# Altium footprint library ESP32.PcbLib: 6 footprints
Each footprint in its own frame and in the unit in brackets; x right, y up, seen from the top. Pads: shape width x height; smd on the part's side, far side on the other; paste and mask are expansions set on the pad; w line width, h text height; cw(c..) or ccw(c..) is an arc to the next point about the centre after c.
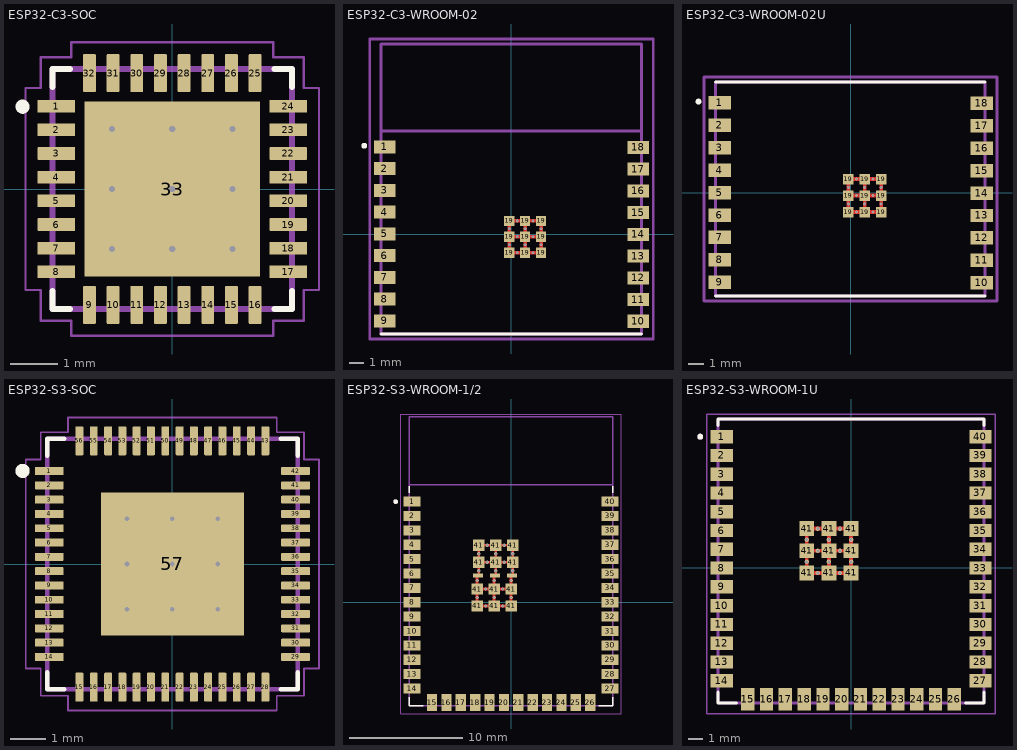
[diagram p0: the footprints below, top view; thin cyan lines are the x and y axes]

## ESP32-C3-SOC [mm]
pads (33):
  rrect15% 0.8x0.27 smd: 1(-2.45,1.75) 2(-2.45,1.25) 3(-2.45,0.75) 4(-2.45,0.25) 5(-2.45,-0.25) 6(-2.45,-0.75) 7(-2.45,-1.25) 8(-2.45,-1.75) 17(2.45,-1.75) 18(2.45,-1.25) 19(2.45,-0.75) 20(2.45,-0.25) 21(2.45,0.25) 22(2.45,0.75) 23(2.45,1.25) 24(2.45,1.75)
  rrect15% 0.27x0.8 smd: 9(-1.75,-2.45) 10(-1.25,-2.45) 11(-0.75,-2.45) 12(-0.25,-2.45) 13(0.25,-2.45) 14(0.75,-2.45) 15(1.25,-2.45) 16(1.75,-2.45) 25(1.75,2.45) 26(1.25,2.45) 27(0.75,2.45) 28(0.25,2.45) 29(-0.25,2.45) 30(-0.75,2.45) 31(-1.25,2.45) 32(-1.75,2.45)
  rect 3.7x3.7 smd paste-0.679: 33(0,0)
via 0,-1.27 diameter 0.254 hole 0.127
via 1.27,-1.27 diameter 0.254 hole 0.127
via 1.27,0 diameter 0.254 hole 0.127
via 0,0 diameter 0.254 hole 0.127
via -1.27,1.27 diameter 0.254 hole 0.127
via 1.27,1.27 diameter 0.254 hole 0.127
via 0,1.27 diameter 0.254 hole 0.127
via -1.27,-1.27 diameter 0.254 hole 0.127
via -1.27,0 diameter 0.254 hole 0.127
Top Overlay:
  circle w0.15: c-3.163,1.739 r0.075
  lines w0.127: -2.53,-2.156 -2.53,-2.53 -2.156,-2.53 ; -2.53,2.156 -2.53,2.53 -2.156,2.53 ; 2.156,-2.53 2.53,-2.53 2.53,-2.156 ; 2.156,2.53 2.53,2.53 2.53,2.156
Top 3D Body:
  lines w0.127: -2.53,-2.53 2.53,-2.53 2.53,2.53 -2.53,2.53 -2.53,-2.53
Top Courtyard:
  lines w0.05: -3.1,-2.135 -3.1,2.135 -2.78,2.135 -2.78,2.78 -2.135,2.78 -2.135,3.1 2.135,3.1 2.135,2.78 2.78,2.78 2.78,2.135 3.1,2.135 3.1,-2.135 2.78,-2.135 2.78,-2.78 2.135,-2.78 2.135,-3.1 -2.135,-3.1 -2.135,-2.78 -2.78,-2.78 -2.78,-2.135 -3.1,-2.135
3D body "ESP32-C3-SOC.STEP": height 0.87, standoff 0, extent -2.501,-2.501 2.501,2.501

## ESP32-C3-WROOM-02 [mm]
pads (27):
  rect 1.5x0.9 smd: 1(-8.75,6.016) 2(-8.75,4.516) 3(-8.75,3.016) 4(-8.75,1.516) 5(-8.75,0.016) 6(-8.75,-1.484) 7(-8.75,-2.984) 8(-8.75,-4.484) 9(-8.75,-5.984) 10(8.75,-6.015) 11(8.75,-4.516) 12(8.75,-3.016) 13(8.75,-1.515) 14(8.75,-0.015) 15(8.75,1.485) 16(8.75,2.984) 17(8.75,4.484) 18(8.75,5.985)
  rect 0.7x0.7 smd: 19(-0.155,-1.285) 19(-0.155,-0.185) 19(-0.155,0.915) 19(0.945,-1.285) 19(0.945,-0.185) 19(0.945,0.915) 19(2.045,-1.285) 19(2.045,-0.185) 19(2.045,0.915)
via -0.155,0.365 diameter 0.2 hole 0.15
via 0.945,0.365 diameter 0.2 hole 0.15
via 2.045,0.365 diameter 0.2 hole 0.15
via -0.155,-0.734 diameter 0.2 hole 0.15
via 0.945,-0.734 diameter 0.2 hole 0.15
via 2.045,-0.734 diameter 0.2 hole 0.15
via 0.395,-1.285 diameter 0.2 hole 0.15
via 0.395,-0.185 diameter 0.2 hole 0.15
via 0.395,0.915 diameter 0.2 hole 0.15
via 1.495,0.915 diameter 0.2 hole 0.15
via 1.495,-0.185 diameter 0.2 hole 0.15
via 1.495,-1.285 diameter 0.2 hole 0.15
Top Layer:
  lines w0.254: -0.155,-0.185 2.045,-0.185 ; 0.945,-1.285 0.945,0.915 ; -0.155,-1.285 2.045,-1.285 2.045,0.915 -0.155,0.915 -0.155,-1.285
Top Overlay:
  circle w0.2: c-10.16,6.096 r0.1
  lines w0.2: -9.015,-6.884 8.985,-6.884
Top 3D Body:
  lines w0.2: -9.015,7.116 8.985,7.116 ; -9.015,-6.884 -9.015,13.116 8.985,13.116 8.985,-6.884 -9.015,-6.884
Top Courtyard:
  lines w0.2: -9.779,-7.239 9.779,-7.239 9.779,13.462 -9.779,13.462 -9.779,-7.239
3D body "ESP32-C3-WROOM-02.STEP": height 3.2, standoff 0, extent -9.015,-6.884 8.985,13.116

## ESP32-C3-WROOM-02U [mm]
pads (27):
  rect 1.5x0.9 smd: 1(-8.75,6.016) 2(-8.75,4.516) 3(-8.75,3.016) 4(-8.75,1.516) 5(-8.75,0.016) 6(-8.75,-1.484) 7(-8.75,-2.984) 8(-8.75,-4.484) 9(-8.75,-5.984) 10(8.75,-6.015) 11(8.75,-4.516) 12(8.75,-3.016) 13(8.75,-1.515) 14(8.75,-0.015) 15(8.75,1.485) 16(8.75,2.984) 17(8.75,4.484) 18(8.75,5.985)
  rect 0.7x0.7 smd: 19(-0.155,-1.285) 19(-0.155,-0.185) 19(-0.155,0.915) 19(0.945,-1.285) 19(0.945,-0.185) 19(0.945,0.915) 19(2.045,-1.285) 19(2.045,-0.185) 19(2.045,0.915)
via 1.495,-1.285 diameter 0.2 hole 0.15
via 1.495,-0.185 diameter 0.2 hole 0.15
via 1.495,0.915 diameter 0.2 hole 0.15
via 0.395,0.915 diameter 0.2 hole 0.15
via 0.395,-0.185 diameter 0.2 hole 0.15
via 0.395,-1.285 diameter 0.2 hole 0.15
via 2.045,-0.734 diameter 0.2 hole 0.15
via 0.945,-0.734 diameter 0.2 hole 0.15
via -0.155,-0.734 diameter 0.2 hole 0.15
via 2.045,0.365 diameter 0.2 hole 0.15
via 0.945,0.365 diameter 0.2 hole 0.15
via -0.155,0.365 diameter 0.2 hole 0.15
Top Layer:
  lines w0.254: -0.155,-0.185 2.045,-0.185 ; 0.945,-1.285 0.945,0.915 ; -0.155,-1.285 -0.155,0.915 2.045,0.915 2.045,-1.285 -0.155,-1.285
Top Overlay:
  circle w0.2: c-10.16,6.096 r0.1
  lines w0.2: -9.015,-6.884 8.985,-6.884 ; -9.015,7.415 8.985,7.415
Top 3D Body:
  lines w0.2: -9.015,-6.884 8.985,-6.884 8.985,7.415 -9.015,7.415 -9.015,-6.884
Top Courtyard:
  lines w0.2: -9.779,-7.239 -9.779,7.747 9.779,7.747 9.779,-7.239 -9.779,-7.239
3D body "ESP32-C3-WROOM-02U.STEP": height 3.2, standoff 0, extent -9.015,-6.884 8.985,7.415

## ESP32-S3-SOC [mm]
pads (57):
  rrect25% 0.81x0.22 smd: 1(-3.445,2.6) 2(-3.445,2.2) 3(-3.445,1.8) 4(-3.445,1.4) 5(-3.445,1) 6(-3.445,0.6) 7(-3.445,0.2) 8(-3.445,-0.2) 9(-3.445,-0.6) 10(-3.445,-1) 11(-3.445,-1.4) 12(-3.445,-1.8) 13(-3.445,-2.2) 14(-3.445,-2.6) 29(3.445,-2.6) 30(3.445,-2.2) 31(3.445,-1.8) 32(3.445,-1.4) 33(3.445,-1) 34(3.445,-0.6) 35(3.445,-0.2) 36(3.445,0.2) 37(3.445,0.6) 38(3.445,1) 39(3.445,1.4) 40(3.445,1.8) 41(3.445,2.2) 42(3.445,2.6)
  rrect25% 0.22x0.81 smd: 15(-2.6,-3.445) 16(-2.2,-3.445) 17(-1.8,-3.445) 18(-1.4,-3.445) 19(-1,-3.445) 20(-0.6,-3.445) 21(-0.2,-3.445) 22(0.2,-3.445) 23(0.6,-3.445) 24(1,-3.445) 25(1.4,-3.445) 26(1.8,-3.445) 27(2.2,-3.445) 28(2.6,-3.445) 43(2.6,3.445) 44(2.2,3.445) 45(1.8,3.445) 46(1.4,3.445) 47(1,3.445) 48(0.6,3.445) 49(0.2,3.445) 50(-0.2,3.445) 51(-0.6,3.445) 52(-1,3.445) 53(-1.4,3.445) 54(-1.8,3.445) 55(-2.2,3.445) 56(-2.6,3.445)
  rect 4x4 smd paste-3: 57(0,0)
via 0,-1.27 diameter 0.254 hole 0.127
via 1.27,-1.27 diameter 0.254 hole 0.127
via 1.27,0 diameter 0.254 hole 0.127
via 0,0 diameter 0.254 hole 0.127
via -1.27,1.27 diameter 0.254 hole 0.127
via 1.27,1.27 diameter 0.254 hole 0.127
via 0,1.27 diameter 0.254 hole 0.127
via -1.27,-1.27 diameter 0.254 hole 0.127
via -1.27,0 diameter 0.254 hole 0.127
Top Overlay:
  circle w0.2: c-4.191,2.603 r0.1
  lines w0.127: -3.5,-3.03 -3.5,-3.5 -3.03,-3.5 ; -3.5,3.03 -3.5,3.5 -3.03,3.5 ; 3.03,-3.5 3.5,-3.5 3.5,-3.03 ; 3.03,3.5 3.5,3.5 3.5,3.03
Top 3D Body:
  lines w0.127: -3.5,-3.5 -3.5,3.5 3.5,3.5 3.5,-3.5 -3.5,-3.5
Top Courtyard:
  lines w0.05: -4.1,-2.921 -4.1,2.921 -3.683,2.921 -3.683,3.683 -2.921,3.683 -2.921,4.1 2.921,4.1 2.921,3.683 3.683,3.683 3.683,2.921 4.1,2.921 4.1,-2.921 3.683,-2.921 3.683,-3.683 2.921,-3.683 2.921,-4.1 -2.921,-4.1 -2.921,-3.683 -3.683,-3.683 -3.683,-2.921 -4.1,-2.921
3D body "ESP32-S3-SOC.STEP": height 0.87, standoff 0, extent -3.501,-3.501 3.501,3.501

## ESP32-S3-WROOM-1/2 [mm]
pads (55):
  rect 1.5x0.9 smd: 1(-8.75,8.88) 2(-8.75,7.61) 3(-8.75,6.34) 4(-8.75,5.07) 5(-8.75,3.8) 6(-8.75,2.53) 7(-8.75,1.26) 8(-8.75,-0.01) 9(-8.75,-1.28) 10(-8.75,-2.55) 11(-8.75,-3.82) 12(-8.75,-5.09) 13(-8.75,-6.36) 14(-8.75,-7.63) 27(8.75,-7.63) 28(8.75,-6.36) 29(8.75,-5.09) 30(8.75,-3.82) 31(8.75,-2.55) 32(8.75,-1.28) 33(8.75,-0.01) 34(8.75,1.26) 35(8.75,2.53) 36(8.75,3.8) 37(8.75,5.07) 38(8.75,6.34) 39(8.75,7.61) 40(8.75,8.88)
  rect 0.9x1.5 smd: 15(-6.985,-8.88) 16(-5.715,-8.88) 17(-4.445,-8.88) 18(-3.175,-8.88) 19(-1.905,-8.88) 20(-0.635,-8.88) 21(0.635,-8.88) 22(1.905,-8.88) 23(3.175,-8.88) 24(4.445,-8.88) 25(5.715,-8.88) 26(6.985,-8.88)
  rect 1x1 smd: 41(-3,-0.34) 41(-3,1.16) 41(-2.86,3.53) 41(-2.86,5.03) 41(-1.5,-0.34) 41(-1.5,1.16) 41(-1.36,3.53) 41(-1.36,5.03) 41(0,-0.34) 41(0,1.16) 41(0.14,3.53) 41(0.14,5.03)
  rect 0.86x0.37 smd: 41(-2.93,2.345) 41(-1.43,2.345) 41(0.07,2.345)
via -2.86,2.78 diameter 0.3 hole 0.2
via -3,1.91 diameter 0.3 hole 0.2
via -0.61,3.53 diameter 0.3 hole 0.2
via -2.11,3.53 diameter 0.3 hole 0.2
via -1.36,2.78 diameter 0.3 hole 0.2
via 0.14,2.78 diameter 0.3 hole 0.2
via -2.86,4.28 diameter 0.3 hole 0.2
via -1.36,4.28 diameter 0.3 hole 0.2
via 0.14,4.28 diameter 0.3 hole 0.2
via -0.61,5.03 diameter 0.3 hole 0.2
via -2.11,5.03 diameter 0.3 hole 0.2
via -0.75,1.16 diameter 0.3 hole 0.2
via -0.75,-0.34 diameter 0.3 hole 0.2
via -2.25,1.16 diameter 0.3 hole 0.2
via -2.25,-0.34 diameter 0.3 hole 0.2
via -3,0.41 diameter 0.3 hole 0.2
via -1.5,0.41 diameter 0.3 hole 0.2
via 0,0.41 diameter 0.3 hole 0.2
via -1.5,1.91 diameter 0.3 hole 0.2
via 0,1.91 diameter 0.3 hole 0.2
Top Layer:
  lines w0.254: -3,1.16 0,1.16 ; -3,2.275 -3,-0.34 0,-0.34 0,2.275 ; -2.86,2.415 -2.86,5.03 0.14,5.03 0.14,2.415 ; -2.86,3.53 0.14,3.53 ; -1.5,-0.34 -1.5,2.275 ; -1.36,2.415 -1.36,5.03
Top Overlay:
  circle w0.2: c-10.2,8.88 r0.1
  lines w0.127: -9,-8.4 -9,-9.13 -7.755,-9.13 ; -9,9.65 -9,10.224 ; 7.755,-9.13 9,-9.13 9,-8.4 ; 9,9.65 9,10.224
Top 3D Body:
  circle w0.2: c-10.2,8.88 r0.1
  lines w0.127: -9,10.37 -9,-9.13 9,-9.13 9,10.37 ; -9,10.37 -9,16.37 9,16.37 9,10.37 ; -9,10.37 9,10.37
Top Courtyard:
  lines w0.05: -9.75,-9.88 -9.75,16.62 9.75,16.62 9.75,-9.88 -9.75,-9.88
3D body "ESP32-S3-WROOM-1.STEP": height 3.1, standoff 0, extent -9,-9.13 9,16.37

## ESP32-S3-WROOM-1U [mm]
pads (49):
  rect 1.5x0.9 smd: 1(-8.75,8.88) 2(-8.75,7.61) 3(-8.75,6.34) 4(-8.75,5.07) 5(-8.75,3.8) 6(-8.75,2.53) 7(-8.75,1.26) 8(-8.75,-0.01) 9(-8.75,-1.28) 10(-8.75,-2.55) 11(-8.75,-3.82) 12(-8.75,-5.09) 13(-8.75,-6.36) 14(-8.75,-7.63) 27(8.75,-7.63) 28(8.75,-6.36) 29(8.75,-5.09) 30(8.75,-3.82) 31(8.75,-2.55) 32(8.75,-1.28) 33(8.75,-0.01) 34(8.75,1.26) 35(8.75,2.53) 36(8.75,3.8) 37(8.75,5.07) 38(8.75,6.34) 39(8.75,7.61) 40(8.75,8.88)
  rect 0.9x1.5 smd: 15(-6.985,-8.88) 16(-5.715,-8.88) 17(-4.445,-8.88) 18(-3.175,-8.88) 19(-1.905,-8.88) 20(-0.635,-8.88) 21(0.635,-8.88) 22(1.905,-8.88) 23(3.175,-8.88) 24(4.445,-8.88) 25(5.715,-8.88) 26(6.985,-8.88)
  rect 1x1 smd: 41(-3,-0.34) 41(-3,1.16) 41(-3,2.66) 41(-1.5,-0.34) 41(-1.5,1.16) 41(-1.5,2.66) 41(0,-0.34) 41(0,1.16) 41(0,2.66)
via -2.25,2.66 diameter 0.3 hole 0.2
via -0.75,2.66 diameter 0.3 hole 0.2
via 0,1.91 diameter 0.3 hole 0.2
via -1.5,1.91 diameter 0.3 hole 0.2
via 0,0.41 diameter 0.3 hole 0.2
via -1.5,0.41 diameter 0.3 hole 0.2
via -3,0.41 diameter 0.3 hole 0.2
via -2.25,-0.34 diameter 0.3 hole 0.2
via -2.25,1.16 diameter 0.3 hole 0.2
via -0.75,-0.34 diameter 0.3 hole 0.2
via -0.75,1.16 diameter 0.3 hole 0.2
via -3,1.91 diameter 0.3 hole 0.2
Top Layer:
  lines w0.254: -3,1.16 0,1.16 ; -1.5,-0.34 -1.5,2.66 ; -3,-0.34 0,-0.34 0,2.66 -3,2.66 -3,-0.34
Top Overlay:
  circle w0.2: c-10.2,8.88 r0.1
  lines w0.2: -9,-8.4 -9,-9.13 -7.755,-9.13 ; -9,9.65 -9,10.07 9,10.07 9,9.65 ; 7.755,-9.13 9,-9.13 9,-8.4
Top 3D Body:
  circle w0.2: c-10.2,8.88 r0.1
  lines w0.2: -9,-9.13 -9,10.07 9,10.07 9,-9.13 -9,-9.13
Top Courtyard:
  lines w0.1: -9.75,-9.88 9.75,-9.88 9.75,10.414 -9.75,10.414 -9.75,-9.88
3D body "ESP32-S3-WROOM-1U.STEP": height 3.2, standoff 0, extent -9,-9.13 9,10.07